# EAGLE library part TSW-130-02-S-S (library con-samtec)
THROUGH-HOLE .025" SQ POST HEADER Source: Samtec TSW.pdf
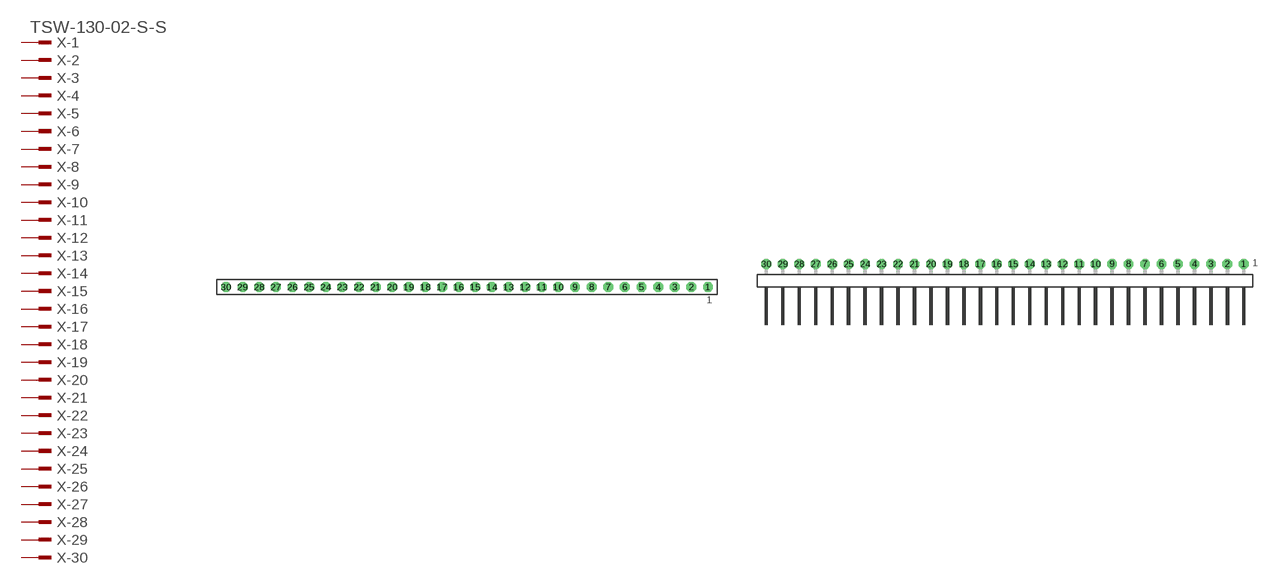
[diagram p216: symbol with the pads of TSW-130-02-S-S; footprints TSW-130-02-S-S, TSW-130-02-S-S-RA]

Designator prefix X; gates -1=MPINV -2=MPIN -3=MPIN -4=MPIN -5=MPIN -6=MPIN -7=MPIN -8=MPIN -9=MPIN -10=MPIN -11=MPIN -12=MPIN -13=MPIN -14=MPIN -15=MPIN -16=MPIN -17=MPIN -18=MPIN -19=MPIN -20=MPIN -21=MPIN -22=MPIN -23=MPIN -24=MPIN -25=MPIN -26=MPIN -27=MPIN -28=MPIN -29=MPIN -30=MPIN

## TSW-130-02-S-S  [TSW-130-02-S-S]
1  -1:1  pas
2  -2:1  pas
3  -3:1  pas
4  -4:1  pas
5  -5:1  pas
6  -6:1  pas
7  -7:1  pas
8  -8:1  pas
9  -9:1  pas
10  -10:1  pas
11  -11:1  pas
12  -12:1  pas
13  -13:1  pas
14  -14:1  pas
15  -15:1  pas
16  -16:1  pas
17  -17:1  pas
18  -18:1  pas
19  -19:1  pas
20  -20:1  pas
21  -21:1  pas
22  -22:1  pas
23  -23:1  pas
24  -24:1  pas
25  -25:1  pas
26  -26:1  pas
27  -27:1  pas
28  -28:1  pas
29  -29:1  pas
30  -30:1  pas

## TSW-130-02-S-S-RA  [TSW-130-02-S-S-RA]
Pads as for TSW-130-02-S-S

## Footprint TSW-130-02-S-S (pad centres in mm)
THROUGH-HOLE .025" SQ POST HEADER Source: Samtec TSW.pdf
drill 1 pad 1.5 octagon: 1 36.83,0; 2 34.29,0; 3 31.75,0; 4 29.21,0; 5 26.67,0; 6 24.13,0; 7 21.59,0; 8 19.05,0; 9 16.51,0; 10 13.97,0; 11 11.43,0; 12 8.89,0; 13 6.35,0; 14 3.81,0; 15 1.27,0; 16 -1.27,0; 17 -3.81,0; 18 -6.35,0; 19 -8.89,0; 20 -11.43,0; 21 -13.97,0; 22 -16.51,0; 23 -19.05,0; 24 -21.59,0; 25 -24.13,0; 26 -26.67,0; 27 -29.21,0; 28 -31.75,0; 29 -34.29,0; 30 -36.83,0

## Footprint TSW-130-02-S-S-RA (pad centres in mm)
THROUGH-HOLE .025" SQ POST HEADER Source: Samtec TSW.pdf
drill 1 pad 1.5 octagon: 1 36.83,1.524; 2 34.29,1.524; 3 31.75,1.524; 4 29.21,1.524; 5 26.67,1.524; 6 24.13,1.524; 7 21.59,1.524; 8 19.05,1.524; 9 16.51,1.524; 10 13.97,1.524; 11 11.43,1.524; 12 8.89,1.524; 13 6.35,1.524; 14 3.81,1.524; 15 1.27,1.524; 16 -1.27,1.524; 17 -3.81,1.524; 18 -6.35,1.524; 19 -8.89,1.524; 20 -11.43,1.524; 21 -13.97,1.524; 22 -16.51,1.524; 23 -19.05,1.524; 24 -21.59,1.524; 25 -24.13,1.524; 26 -26.67,1.524; 27 -29.21,1.524; 28 -31.75,1.524; 29 -34.29,1.524; 30 -36.83,1.524